# EAGLE library part XC2C128-7VQG100C (library CPLD)
IC CPLD 128MC 7NS 100VQFP Manufacturer's datasheet <https://www.xilinx.com/support/documentation/data_sheets/ds093.pdf>
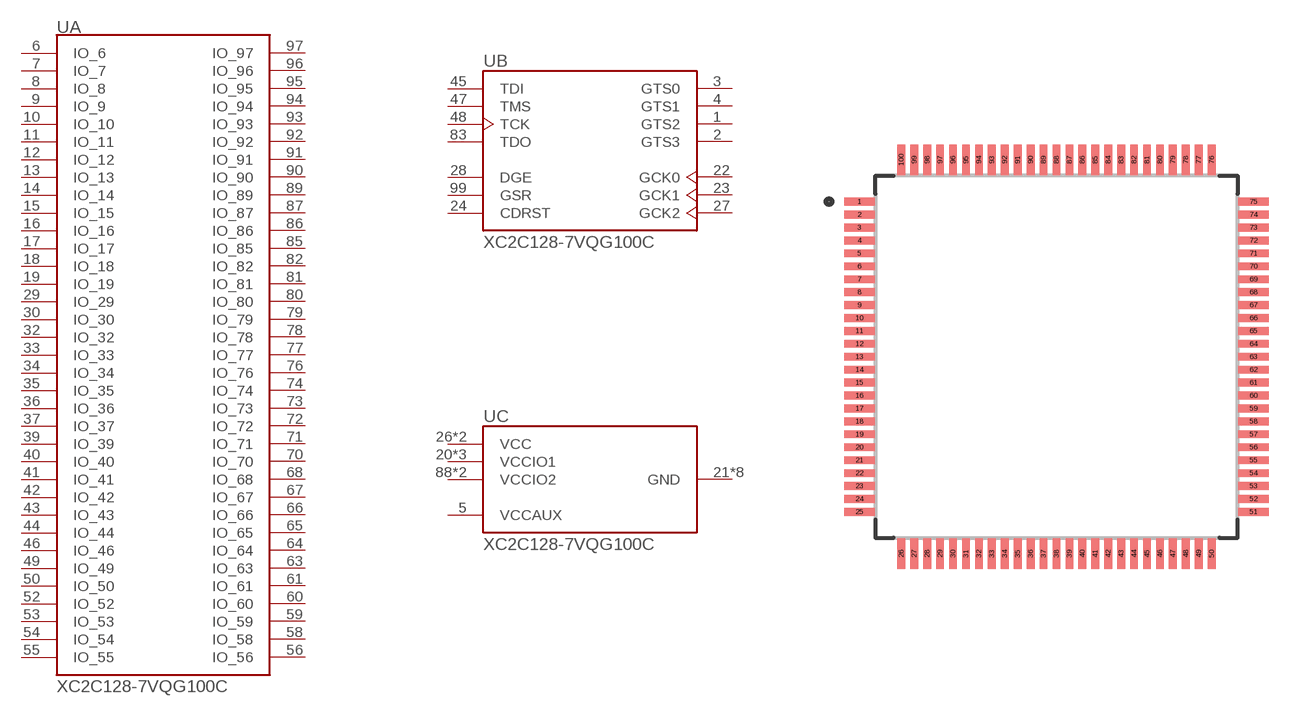
[diagram p7: symbol with the pads of VQ100; footprint VQ100]

Designator prefix U; gates A=XC2C128-7VQG100C_IO B=XC2C128-7VQG100C_CLK_JTAG C=XC2C128-7VQG100C_PWR

## XC2C128-7VQG100C (CREATED_BY: PCBLayout.com; DIGIKEY_PARTNO: 122-1285-ND; MANUFACTURER: Xilinx Inc.; MPN: XC2C128-7VQG100C; PACKAGE: VQFP-100)  [VQ100]
1  B:GTS2
2  B:GTS3
3  B:GTS0
4  B:GTS1
5  C:VCCAUX  pwr
6  A:IO_6
7  A:IO_7
8  A:IO_8
9  A:IO_9
10  A:IO_10
11  A:IO_11
12  A:IO_12
13  A:IO_13
14  A:IO_14
15  A:IO_15
16  A:IO_16
17  A:IO_17
18  A:IO_18
19  A:IO_19
20  C:VCCIO1  pwr
21  C:GND  pwr
22  B:GCK0
23  B:GCK1
24  B:CDRST
25  C:GND  pwr
26  C:VCC  pwr
27  B:GCK2
28  B:DGE
29  A:IO_29
30  A:IO_30
31  C:GND  pwr
32  A:IO_32
33  A:IO_33
34  A:IO_34
35  A:IO_35
36  A:IO_36
37  A:IO_37
38  C:VCCIO1  pwr
39  A:IO_39
40  A:IO_40
41  A:IO_41
42  A:IO_42
43  A:IO_43
44  A:IO_44
45  B:TDI  in
46  A:IO_46
47  B:TMS
48  B:TCK
49  A:IO_49
50  A:IO_50
51  C:VCCIO1  pwr
52  A:IO_52
53  A:IO_53
54  A:IO_54
55  A:IO_55
56  A:IO_56
57  C:VCC  pwr
58  A:IO_58
59  A:IO_59
60  A:IO_60
61  A:IO_61
62  C:GND  pwr
63  A:IO_63
64  A:IO_64
65  A:IO_65
66  A:IO_66
67  A:IO_67
68  A:IO_68
69  C:GND  pwr
70  A:IO_70
71  A:IO_71
72  A:IO_72
73  A:IO_73
74  A:IO_74
75  C:GND  pwr
76  A:IO_76
77  A:IO_77
78  A:IO_78
79  A:IO_79
80  A:IO_80
81  A:IO_81
82  A:IO_82
83  B:TDO  out
84  C:GND  pwr
85  A:IO_85
86  A:IO_86
87  A:IO_87
88  C:VCCIO2  pwr
89  A:IO_89
90  A:IO_90
91  A:IO_91
92  A:IO_92
93  A:IO_93
94  A:IO_94
95  A:IO_95
96  A:IO_96
97  A:IO_97
98  C:VCCIO2  pwr
99  B:GSR
100  C:GND  pwr

## Footprint VQ100 (pad centres in mm)
smd 1.17 x 0.3: 1 -7.62,6; 2 -7.62,5.5; 3 -7.62,5; 4 -7.62,4.5; 5 -7.62,4; 6 -7.62,3.5; 7 -7.62,3; 8 -7.62,2.5; 9 -7.62,2; 10 -7.62,1.5; 11 -7.62,1; 12 -7.62,0.5; 13 -7.62,0; 14 -7.62,-0.5; 15 -7.62,-1; 16 -7.62,-1.5; 17 -7.62,-2; 18 -7.62,-2.5; 19 -7.62,-3; 20 -7.62,-3.5; 21 -7.62,-4; 22 -7.62,-4.5; 23 -7.62,-5; 24 -7.62,-5.5; 25 -7.62,-6; 51 7.62,-6; 52 7.62,-5.5; 53 7.62,-5; 54 7.62,-4.5; 55 7.62,-4; 56 7.62,-3.5; 57 7.62,-3; 58 7.62,-2.5; 59 7.62,-2; 60 7.62,-1.5; 61 7.62,-1; 62 7.62,-0.5; 63 7.62,0; 64 7.62,0.5; 65 7.62,1; 66 7.62,1.5; 67 7.62,2; 68 7.62,2.5; 69 7.62,3; 70 7.62,3.5; 71 7.62,4; 72 7.62,4.5; 73 7.62,5; 74 7.62,5.5; 75 7.62,6
smd 0.3 x 1.17: 26 -6,-7.62; 27 -5.5,-7.62; 28 -5,-7.62; 29 -4.5,-7.62; 30 -4,-7.62; 31 -3.5,-7.62; 32 -3,-7.62; 33 -2.5,-7.62; 34 -2,-7.62; 35 -1.5,-7.62; 36 -1,-7.62; 37 -0.5,-7.62; 38 0,-7.62; 39 0.5,-7.62; 40 1,-7.62; 41 1.5,-7.62; 42 2,-7.62; 43 2.5,-7.62; 44 3,-7.62; 45 3.5,-7.62; 46 4,-7.62; 47 4.5,-7.62; 48 5,-7.62; 49 5.5,-7.62; 50 6,-7.62; 76 6,7.62; 77 5.5,7.62; 78 5,7.62; 79 4.5,7.62; 80 4,7.62; 81 3.5,7.62; 82 3,7.62; 83 2.5,7.62; 84 2,7.62; 85 1.5,7.62; 86 1,7.62; 87 0.5,7.62; 88 0,7.62; 89 -0.5,7.62; 90 -1,7.62; 91 -1.5,7.62; 92 -2,7.62; 93 -2.5,7.62; 94 -3,7.62; 95 -3.5,7.62; 96 -4,7.62; 97 -4.5,7.62; 98 -5,7.62; 99 -5.5,7.62; 100 -6,7.62